# Altium integrated library SSM Inductor.IntLib: 13 symbols
Pins are listed as number, name and electrical type; pins without a type are passive.

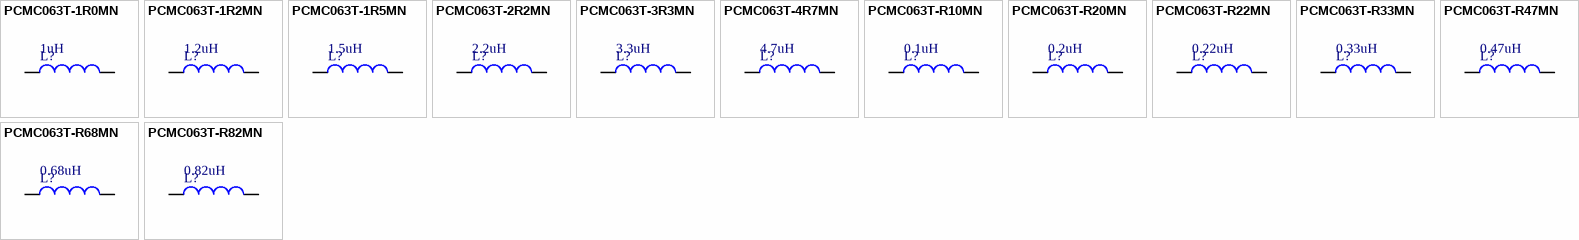
[diagram p0: symbols PCMC063T-1R0MN to PCMC063T-R82MN]

## PCMC063T-1R0MN
designator L?  value 1uH
SMT Power Choke Coil; Size 7.3×6.6×3.0mm, ±20% Tolerance, 1.0uH, 11A; PCB_Layout: Complies with manufacturer's recommendation.; Published: 26-Sep-2008; DatasheetVersion: Oct-2007; PackageVersion: Oct-2007; PackageReference: PCMC063T; Publisher: Altium Limited; PackageDescription: SM Power Choke Coil; 2 Leads; Body 7.3 x 6.6 x 3.0 mm (LxWxH); ComponentLink1Description: Manufacturer Link; ComponentLink1URL: http://www.susumu.co.jp/; ComponentLink2Description: Datasheet; ComponentLink2URL: http://www.susumu.co.jp/english/pdf/products-j07-01.pdf
footprint PCMC063T (SM Inductor; 2 Leads; Body 7.3x6.6mm (LxW))
footprint PCMC063T_V (SM Inductor; 2 Leads; Body 7.3x6.6mm (LxW), SSM Recommended)
simulation model INDUCTOR (Inductor)
signal-integrity model Inductor
pins: 1, 2

## PCMC063T-1R2MN
designator L?  value 1.2uH
SMT Power Choke Coil; Size 7.3×6.6×3.0mm, ±20% Tolerance, 1.2uH, 10A; PCB_Layout: Complies with manufacturer's recommendation.; Published: 26-Sep-2008; DatasheetVersion: Oct-2007; PackageVersion: Oct-2007; PackageReference: PCMC063T; Publisher: Altium Limited; PackageDescription: SM Power Choke Coil; 2 Leads; Body 7.3 x 6.6 x 3.0 mm (LxWxH); ComponentLink1Description: Manufacturer Link; ComponentLink1URL: http://www.susumu.co.jp/; ComponentLink2Description: Datasheet; ComponentLink2URL: http://www.susumu.co.jp/english/pdf/products-j07-01.pdf
footprint PCMC063T (SM Inductor; 2 Leads; Body 7.3x6.6mm (LxW))
footprint PCMC063T_V (SM Inductor; 2 Leads; Body 7.3x6.6mm (LxW), SSM Recommended)
simulation model INDUCTOR (Inductor)
signal-integrity model Inductor
pins: 1, 2

## PCMC063T-1R5MN
designator L?  value 1.5uH
SMT Power Choke Coil; Size 7.3×6.6×3.0mm, ±20% Tolerance, 1.5uH, 9A; PCB_Layout: Complies with manufacturer's recommendation.; Published: 26-Sep-2008; DatasheetVersion: Oct-2007; PackageVersion: Oct-2007; PackageReference: PCMC063T; Publisher: Altium Limited; PackageDescription: SM Power Choke Coil; 2 Leads; Body 7.3 x 6.6 x 3.0 mm (LxWxH); ComponentLink1Description: Manufacturer Link; ComponentLink1URL: http://www.susumu.co.jp/; ComponentLink2Description: Datasheet; ComponentLink2URL: http://www.susumu.co.jp/english/pdf/products-j07-01.pdf
footprint PCMC063T (SM Inductor; 2 Leads; Body 7.3x6.6mm (LxW))
footprint PCMC063T_V (SM Inductor; 2 Leads; Body 7.3x6.6mm (LxW), SSM Recommended)
simulation model INDUCTOR (Inductor)
signal-integrity model Inductor
pins: 1, 2

## PCMC063T-2R2MN
designator L?  value 2.2uH
SMT Power Choke Coil; Size 7.3×6.6×3.0mm, ±20% Tolerance, 2.2uH, 8A; PCB_Layout: Complies with manufacturer's recommendation.; Published: 26-Sep-2008; DatasheetVersion: Oct-2007; PackageVersion: Oct-2007; PackageReference: PCMC063T; Publisher: Altium Limited; PackageDescription: SM Power Choke Coil; 2 Leads; Body 7.3 x 6.6 x 3.0 mm (LxWxH); ComponentLink1Description: Manufacturer Link; ComponentLink1URL: http://www.susumu.co.jp/; ComponentLink2Description: Datasheet; ComponentLink2URL: http://www.susumu.co.jp/english/pdf/products-j07-01.pdf
footprint PCMC063T (SM Inductor; 2 Leads; Body 7.3x6.6mm (LxW))
footprint PCMC063T_V (SM Inductor; 2 Leads; Body 7.3x6.6mm (LxW), SSM Recommended)
simulation model INDUCTOR (Inductor)
signal-integrity model Inductor
pins: 1, 2

## PCMC063T-3R3MN
designator L?  value 3.3uH
SMT Power Choke Coil; Size 7.3×6.6×3.0mm, ±20% Tolerance, 3.3uH, 6A; PCB_Layout: Complies with manufacturer's recommendation.; Published: 26-Sep-2008; DatasheetVersion: Oct-2007; PackageVersion: Oct-2007; PackageReference: PCMC063T; Publisher: Altium Limited; PackageDescription: SM Power Choke Coil; 2 Leads; Body 7.3 x 6.6 x 3.0 mm (LxWxH); ComponentLink1Description: Manufacturer Link; ComponentLink1URL: http://www.susumu.co.jp/; ComponentLink2Description: Datasheet; ComponentLink2URL: http://www.susumu.co.jp/english/pdf/products-j07-01.pdf
footprint PCMC063T (SM Inductor; 2 Leads; Body 7.3x6.6mm (LxW))
footprint PCMC063T_V (SM Inductor; 2 Leads; Body 7.3x6.6mm (LxW), SSM Recommended)
simulation model INDUCTOR (Inductor)
signal-integrity model Inductor
pins: 1, 2

## PCMC063T-4R7MN
designator L?  value 4.7uH
SMT Power Choke Coil; Size 7.3×6.6×3.0mm, ±20% Tolerance, 4.7uH, 5.5A; PCB_Layout: Complies with manufacturer's recommendation.; Published: 26-Sep-2008; DatasheetVersion: Oct-2007; PackageVersion: Oct-2007; PackageReference: PCMC063T; Publisher: Altium Limited; PackageDescription: SM Power Choke Coil; 2 Leads; Body 7.3 x 6.6 x 3.0 mm (LxWxH); ComponentLink1Description: Manufacturer Link; ComponentLink1URL: http://www.susumu.co.jp/; ComponentLink2Description: Datasheet; ComponentLink2URL: http://www.susumu.co.jp/english/pdf/products-j07-01.pdf
footprint PCMC063T (SM Inductor; 2 Leads; Body 7.3x6.6mm (LxW))
footprint PCMC063T_V (SM Inductor; 2 Leads; Body 7.3x6.6mm (LxW), SSM Recommended)
simulation model INDUCTOR (Inductor)
signal-integrity model Inductor
pins: 1, 2

## PCMC063T-R10MN
designator L?  value 0.1uH
SMT Power Choke Coil; Size 7.3×6.6×3.0mm, ±20% Tolerance, 0.1uH, 32.5A; PCB_Layout: Complies with manufacturer's recommendation.; Published: 26-Sep-2008; DatasheetVersion: Oct-2007; PackageVersion: Oct-2007; PackageReference: PCMC063T; Publisher: Altium Limited; PackageDescription: SM Power Choke Coil; 2 Leads; Body 7.3 x 6.6 x 3.0 mm (LxWxH); ComponentLink1Description: Manufacturer Link; ComponentLink1URL: http://www.susumu.co.jp/; ComponentLink2Description: Datasheet; ComponentLink2URL: http://www.susumu.co.jp/english/pdf/products-j07-01.pdf
footprint PCMC063T (SM Inductor; 2 Leads; Body 7.3x6.6mm (LxW))
footprint PCMC063T_V (SM Inductor; 2 Leads; Body 7.3x6.6mm (LxW), SSM Recommended)
simulation model INDUCTOR (Inductor)
signal-integrity model Inductor
pins: 1, 2

## PCMC063T-R20MN
designator L?  value 0.2uH
SMT Power Choke Coil; Size 7.3×6.6×3.0mm, ±20% Tolerance, 0.2uH, 24A; PCB_Layout: Complies with manufacturer's recommendation.; Published: 26-Sep-2008; DatasheetVersion: Oct-2007; PackageVersion: Oct-2007; PackageReference: PCMC063T; Publisher: Altium Limited; PackageDescription: SM Power Choke Coil; 2 Leads; Body 7.3 x 6.6 x 3.0 mm (LxWxH); ComponentLink1Description: Manufacturer Link; ComponentLink1URL: http://www.susumu.co.jp/; ComponentLink2Description: Datasheet; ComponentLink2URL: http://www.susumu.co.jp/english/pdf/products-j07-01.pdf
footprint PCMC063T (SM Inductor; 2 Leads; Body 7.3x6.6mm (LxW))
footprint PCMC063T_V (SM Inductor; 2 Leads; Body 7.3x6.6mm (LxW), SSM Recommended)
simulation model INDUCTOR (Inductor)
signal-integrity model Inductor
pins: 1, 2

## PCMC063T-R22MN
designator L?  value 0.22uH
SMT Power Choke Coil; Size 7.3×6.6×3.0mm, ±20% Tolerance, 0.22uH, 26A; PCB_Layout: Complies with manufacturer's recommendation.; Published: 26-Sep-2008; DatasheetVersion: Oct-2007; PackageVersion: Oct-2007; PackageReference: PCMC063T; Publisher: Altium Limited; PackageDescription: SM Power Choke Coil; 2 Leads; Body 7.3 x 6.6 x 3.0 mm (LxWxH); ComponentLink1Description: Manufacturer Link; ComponentLink1URL: http://www.susumu.co.jp/; ComponentLink2Description: Datasheet; ComponentLink2URL: http://www.susumu.co.jp/english/pdf/products-j07-01.pdf
footprint PCMC063T (SM Inductor; 2 Leads; Body 7.3x6.6mm (LxW))
footprint PCMC063T_V (SM Inductor; 2 Leads; Body 7.3x6.6mm (LxW), SSM Recommended)
simulation model INDUCTOR (Inductor)
signal-integrity model Inductor
pins: 1, 2

## PCMC063T-R33MN
designator L?  value 0.33uH
SMT Power Choke Coil; Size 7.3×6.6×3.0mm, ±20% Tolerance, 0.33uH, 20A; PCB_Layout: Complies with manufacturer's recommendation.; Published: 26-Sep-2008; DatasheetVersion: Oct-2007; PackageVersion: Oct-2007; PackageReference: PCMC063T; Publisher: Altium Limited; PackageDescription: SM Power Choke Coil; 2 Leads; Body 7.3 x 6.6 x 3.0 mm (LxWxH); ComponentLink1Description: Manufacturer Link; ComponentLink1URL: http://www.susumu.co.jp/; ComponentLink2Description: Datasheet; ComponentLink2URL: http://www.susumu.co.jp/english/pdf/products-j07-01.pdf
footprint PCMC063T (SM Inductor; 2 Leads; Body 7.3x6.6mm (LxW))
footprint PCMC063T_V (SM Inductor; 2 Leads; Body 7.3x6.6mm (LxW), SSM Recommended)
simulation model INDUCTOR (Inductor)
signal-integrity model Inductor
pins: 1, 2

## PCMC063T-R47MN
designator L?  value 0.47uH
SMT Power Choke Coil; Size 7.3×6.6×3.0mm, ±20% Tolerance, 0.47uH, 17.5A; PCB_Layout: Complies with manufacturer's recommendation.; Published: 26-Sep-2008; DatasheetVersion: Oct-2007; PackageVersion: Oct-2007; PackageReference: PCMC063T; Publisher: Altium Limited; PackageDescription: SM Power Choke Coil; 2 Leads; Body 7.3 x 6.6 x 3.0 mm (LxWxH); ComponentLink1Description: Manufacturer Link; ComponentLink1URL: http://www.susumu.co.jp/; ComponentLink2Description: Datasheet; ComponentLink2URL: http://www.susumu.co.jp/english/pdf/products-j07-01.pdf
footprint PCMC063T (SM Inductor; 2 Leads; Body 7.3x6.6mm (LxW))
footprint PCMC063T_V (SM Inductor; 2 Leads; Body 7.3x6.6mm (LxW), SSM Recommended)
simulation model INDUCTOR (Inductor)
signal-integrity model Inductor
pins: 1, 2

## PCMC063T-R68MN
designator L?  value 0.68uH
SMT Power Choke Coil; Size 7.3×6.6×3.0mm, ±20% Tolerance, 0.68uH, 15.5A; PCB_Layout: Complies with manufacturer's recommendation.; Published: 26-Sep-2008; DatasheetVersion: Oct-2007; PackageVersion: Oct-2007; PackageReference: PCMC063T; Publisher: Altium Limited; PackageDescription: SM Power Choke Coil; 2 Leads; Body 7.3 x 6.6 x 3.0 mm (LxWxH); ComponentLink1Description: Manufacturer Link; ComponentLink1URL: http://www.susumu.co.jp/; ComponentLink2Description: Datasheet; ComponentLink2URL: http://www.susumu.co.jp/english/pdf/products-j07-01.pdf
footprint PCMC063T (SM Inductor; 2 Leads; Body 7.3x6.6mm (LxW))
footprint PCMC063T_V (SM Inductor; 2 Leads; Body 7.3x6.6mm (LxW), SSM Recommended)
simulation model INDUCTOR (Inductor)
signal-integrity model Inductor
pins: 1, 2

## PCMC063T-R82MN
designator L?  value 0.82uH
SMT Power Choke Coil; Size 7.3×6.6×3.0mm, ±20% Tolerance, 0.82uH, 13A; PCB_Layout: Complies with manufacturer's recommendation.; Published: 26-Sep-2008; DatasheetVersion: Oct-2007; PackageVersion: Oct-2007; PackageReference: PCMC063T; Publisher: Altium Limited; PackageDescription: SM Power Choke Coil; 2 Leads; Body 7.3 x 6.6 x 3.0 mm (LxWxH); ComponentLink1Description: Manufacturer Link; ComponentLink1URL: http://www.susumu.co.jp/; ComponentLink2Description: Datasheet; ComponentLink2URL: http://www.susumu.co.jp/english/pdf/products-j07-01.pdf
footprint PCMC063T (SM Inductor; 2 Leads; Body 7.3x6.6mm (LxW))
footprint PCMC063T_V (SM Inductor; 2 Leads; Body 7.3x6.6mm (LxW), SSM Recommended)
simulation model INDUCTOR (Inductor)
signal-integrity model Inductor
pins: 1, 2